# Altium integrated library LOGIC-74HC595D_SOIC16_.IntLib: 1 symbol
Pins are listed as number, name and electrical type; pins without a type are passive.

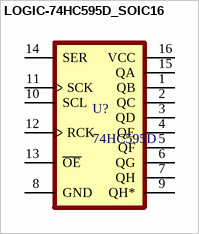
[diagram p0: symbol LOGIC-74HC595D_SOIC16]

## LOGIC-74HC595D_SOIC16
designator U?, comment 74HC595D
Shift Shift Register 1 Element 8 Bit 16-SOP; MF: Toshiba; MP: 74HC595D; Price: None; SnapEDA_Link: https://www.snapeda.com/parts/74HC595D/avi/view-part/4713956/?ref=snap; Availability: Unavailable; Value: *; Package: SOP-16 Toshiba; Supplier 1: Digi-Key; Supplier Part Number 1: 296-14857-6-ND
footprint SOIC16-1.27-10X3.9MM
pins: 1 QB, 2 QC, 3 QD, 4 QE, 5 QF, 6 QG, 7 QH, 8 GND (power), 9 QH*, 10 SCL, 11 SCK, 12 RCK, 13 ~{OE}, 14 SER, 15 QA, 16 VCC (power)